# Altium integrated library Diode.IntLib: 17 symbols
Pins are listed as number, name and electrical type; pins without a type are passive.

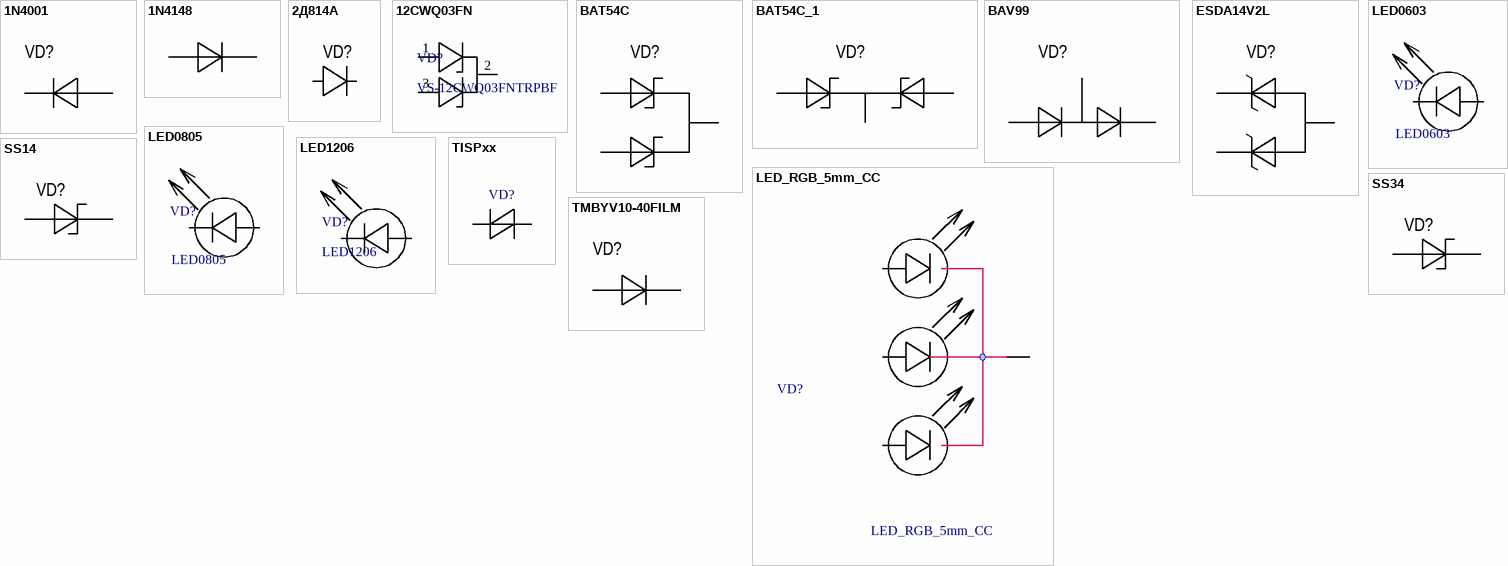
[diagram p0: symbols 1N4001 to TMBYV10-40FILM]

## 1N4001
designator VD?  (value not drawn)
footprint DO-41_Vertical
pins: 1, 2

## 1N4148
designator R?  (value not drawn)
Rem: *; Корпус: *; Value: *; Tolerance: *; Power/Voltage: *; TKE: *; ManufacturerPartNumber: *; Manufacturer: *; Quantity: *; Примечание: *
footprint 1N4148
pins: 1, 2

## 2Д814А
designator VD?  (value not drawn)
footprint КД3
pins: 1, 2

## 12CWQ03FN
designator VD?, comment VS-12CWQ03FNTRPBF
footprint TO252
pins: 1, 2, 3

## BAT54C
designator VD?  (value not drawn)
footprint SOT23-3
pins: 1, 2, 3

## BAT54C_1
designator VD?, comment BAT54C  (value not drawn)
footprint SOT23-3
pins: 1, 2, 3

## BAV99
designator VD?, comment BAV99BAT54C  (value not drawn)
BAV99
footprint SOT23-3
pins: 1, 2, 3

## ESDA14V2L
designator VD?  (value not drawn)
footprint SOT23-3
pins: 1, 2, 3

## LED0603
designator VD?
footprint LED0805
footprint LED0603
pins: 1, 2

## LED0805
designator VD?
footprint LED0805
pins: 1, 2

## LED1206
designator VD?
footprint LED1206-GREEN
pins: 1, 2

## LED_RGB_5mm_CC
designator VD?
pins: 1, 2, 3, 4

## SS14
designator VD?  (value not drawn)
footprint DO-214AC_SMA
pins: 1, 2

## SS34
designator VD?  (value not drawn)
footprint DO-214AB (DO-214AB, SMC)
pins: 1, 2

## TISPxx
designator VD?  (value not drawn)
Rem: *; Корпус: *; Value: *; Tolerance: *; Power/Voltage: *; TKE: *; ManufacturerPartNumber: *; Manufacturer: *; Quantity: *; Примечание: *
footprint DO-214AC_SMB
pins: 1, 2

## TMBYV10-40FILM
designator VD?  (value not drawn)
ChipDip: 9060000339
footprint MELF
pins: 1, 2

## РЫБА
designator R?  (value not drawn)
Rem: *; Корпус: *; Value: *; Tolerance: *; Power/Voltage: *; TKE: *; ManufacturerPartNumber: *; Manufacturer: *; Quantity: *; Примечание: *